# EAGLE library part FLASH-W25X80 (library IC-new)
1M-BIT,2M-BIT,4M-BIT AND 8M-BIT SERIAL FLASH MEMORY WITH 4KB SECTORS AND DUAL OUTPUT SPI
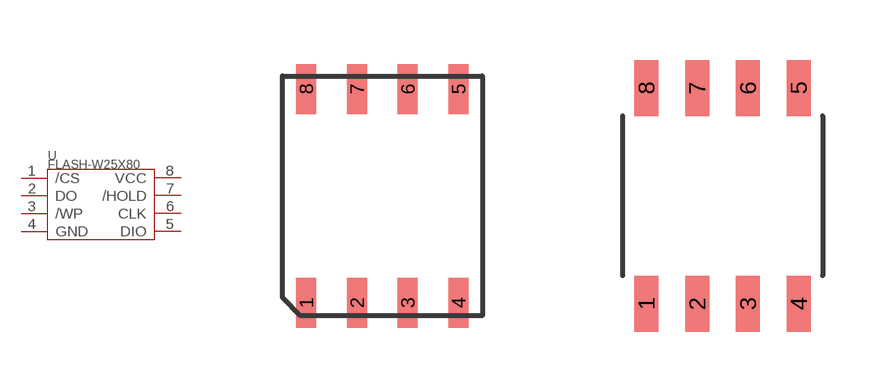
[diagram p1: symbol with the pads of SON8-1.27-5X6MM; footprints SON8-1.27-5X6MM, SOIC8-1.27-5X4MM]

Designator prefix U

## FLASH-W25X80-1.27  [SON8-1.27-5X6MM]
1  /CS
2  DO
3  /WP
4  GND
5  DIO
6  CLK
7  /HOLD
8  VCC

## FLASH-W25X80-5X4-SN  [SOIC8-1.27-5X4MM]
Pads as for SON8-1.27-5X6MM

## FLASH-W25X80-FZBIHO  [USON8-0.8-4X3MM]
Pads as for SON8-1.27-5X6MM

## FLASH-W25X80-FZUIH1  [USON8-0.5-3X2MM]
Pads as for SON8-1.27-5X6MM

## FLASH-W25X80-L3235E  [WSON8P-1.27-6X5X0.8MM]
Pads as for SON8-1.27-5X6MM

## FLASH-W25X80-SS  [SOIC8-1.27-5.3X5.3MM]
Pads as for SON8-1.27-5X6MM

## Footprint SON8-1.27-5X6MM (pad centres in mm)
smd 0.5 x 1.25: 1 -1.905,-2.675; 2 -0.635,-2.675; 3 0.635,-2.675; 4 1.905,-2.675; 5 1.905,2.675; 6 0.635,2.675; 7 -0.635,2.675; 8 -1.905,2.675

## Footprint SOIC8-1.27-5X4MM (pad centres in mm)
smd 0.6 x 1.4: 1 -1.905,-2.7; 2 -0.635,-2.7; 3 0.635,-2.7; 4 1.905,-2.7; 5 1.905,2.7; 6 0.635,2.7; 7 -0.635,2.7; 8 -1.905,2.7

## Footprint USON8-0.8-4X3MM (pad centres in mm)
smd 0.9 x 0.4: 1 -1.25,1.2; 2 -1.25,0.4; 3 -1.25,-0.4; 4 -1.25,-1.2; 5 1.25,-1.2; 6 1.25,-0.4; 7 1.25,0.4; 8 1.25,1.2
smd 0.3 x 2.5: BP 0,0

## Footprint USON8-0.5-3X2MM (pad centres in mm)
smd 0.9 x 0.3: 1 -1.35,0.75; 2 -1.35,0.25; 3 -1.35,-0.25; 4 -1.35,-0.75; 5 1.35,-0.75; 6 1.35,-0.25; 7 1.35,0.25; 8 1.35,0.75
smd 0.2 x 1.6: BP 0,0

## Footprint WSON8P-1.27-6X5X0.8MM (pad centres in mm)
smd 0.6 x 1.2: 1 -1.905,-2.7; 2 -0.635,-2.7; 3 0.635,-2.7; 4 1.905,-2.7; 5 1.905,2.7; 6 0.635,2.7; 7 -0.635,2.7; 8 -1.905,2.7

## Footprint SOIC8-1.27-5.3X5.3MM (pad centres in mm)
smd 0.62 x 1.4: 1 -1.905,-3.623; 2 -0.635,-3.623; 3 0.635,-3.623; 4 1.905,-3.623; 5 1.905,3.623; 6 0.635,3.623; 7 -0.635,3.623; 8 -1.905,3.623